# Altium footprint library MicroUSB-Molex-105017.PcbLib: 1 footprints
Each footprint in its own frame and in the unit in brackets; x right, y up, seen from the top. Pads: shape width x height; smd on the part's side, far side on the other; paste and mask are expansions set on the pad; w line width, h text height; cw(c..) or ccw(c..) is an arc to the next point about the centre after c.
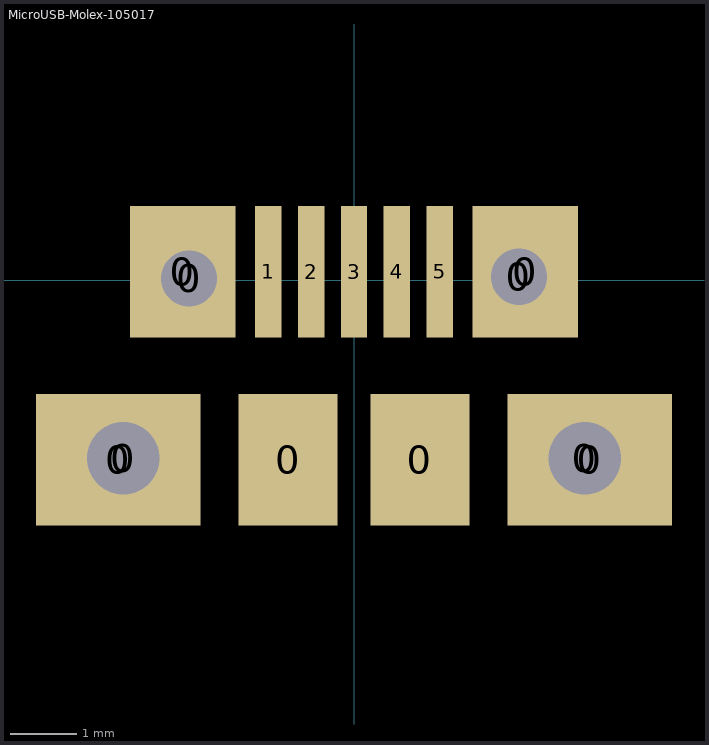
[diagram p0: the footprint, top view; thin cyan lines are the x and y axes]

## MicroUSB-Molex-105017 [mm]
pads (15):
  rect 2.5x2 smd: 0(-3.575,-2.725) 0(3.575,-2.725)
  round 1.7 hole 1.1 mask+0.15: 0(-3.5,-2.7) 0(3.5,-2.7)
  rect 1.6x2 smd: 0(-2.6,0.125) 0(2.6,0.125)
  round 1.4 hole 0.85: 0(-2.5,0.025) 0(2.5,0.05)
  rect 1.5x2 smd: 0(-1,-2.725) 0(1,-2.725)
  rect 0.4x2 smd: 1(-1.3,0.125) 2(-0.65,0.125) 3(0,0.125) 4(0.65,0.125) 5(1.3,0.125)
3D body "MicroUSB-Molex-105017.stp": height 2.78, standoff -0.53, extent -4.1,-5.2 4.1,0.2